# Altium footprint library IDC.PcbLib: 23 footprints (part 1 of 2)
Each footprint in its own frame and in the unit in brackets; x right, y up, seen from the top. Pads: shape width x height; smd on the part's side, far side on the other; paste and mask are expansions set on the pad; w line width, h text height; cw(c..) or ccw(c..) is an arc to the next point about the centre after c.
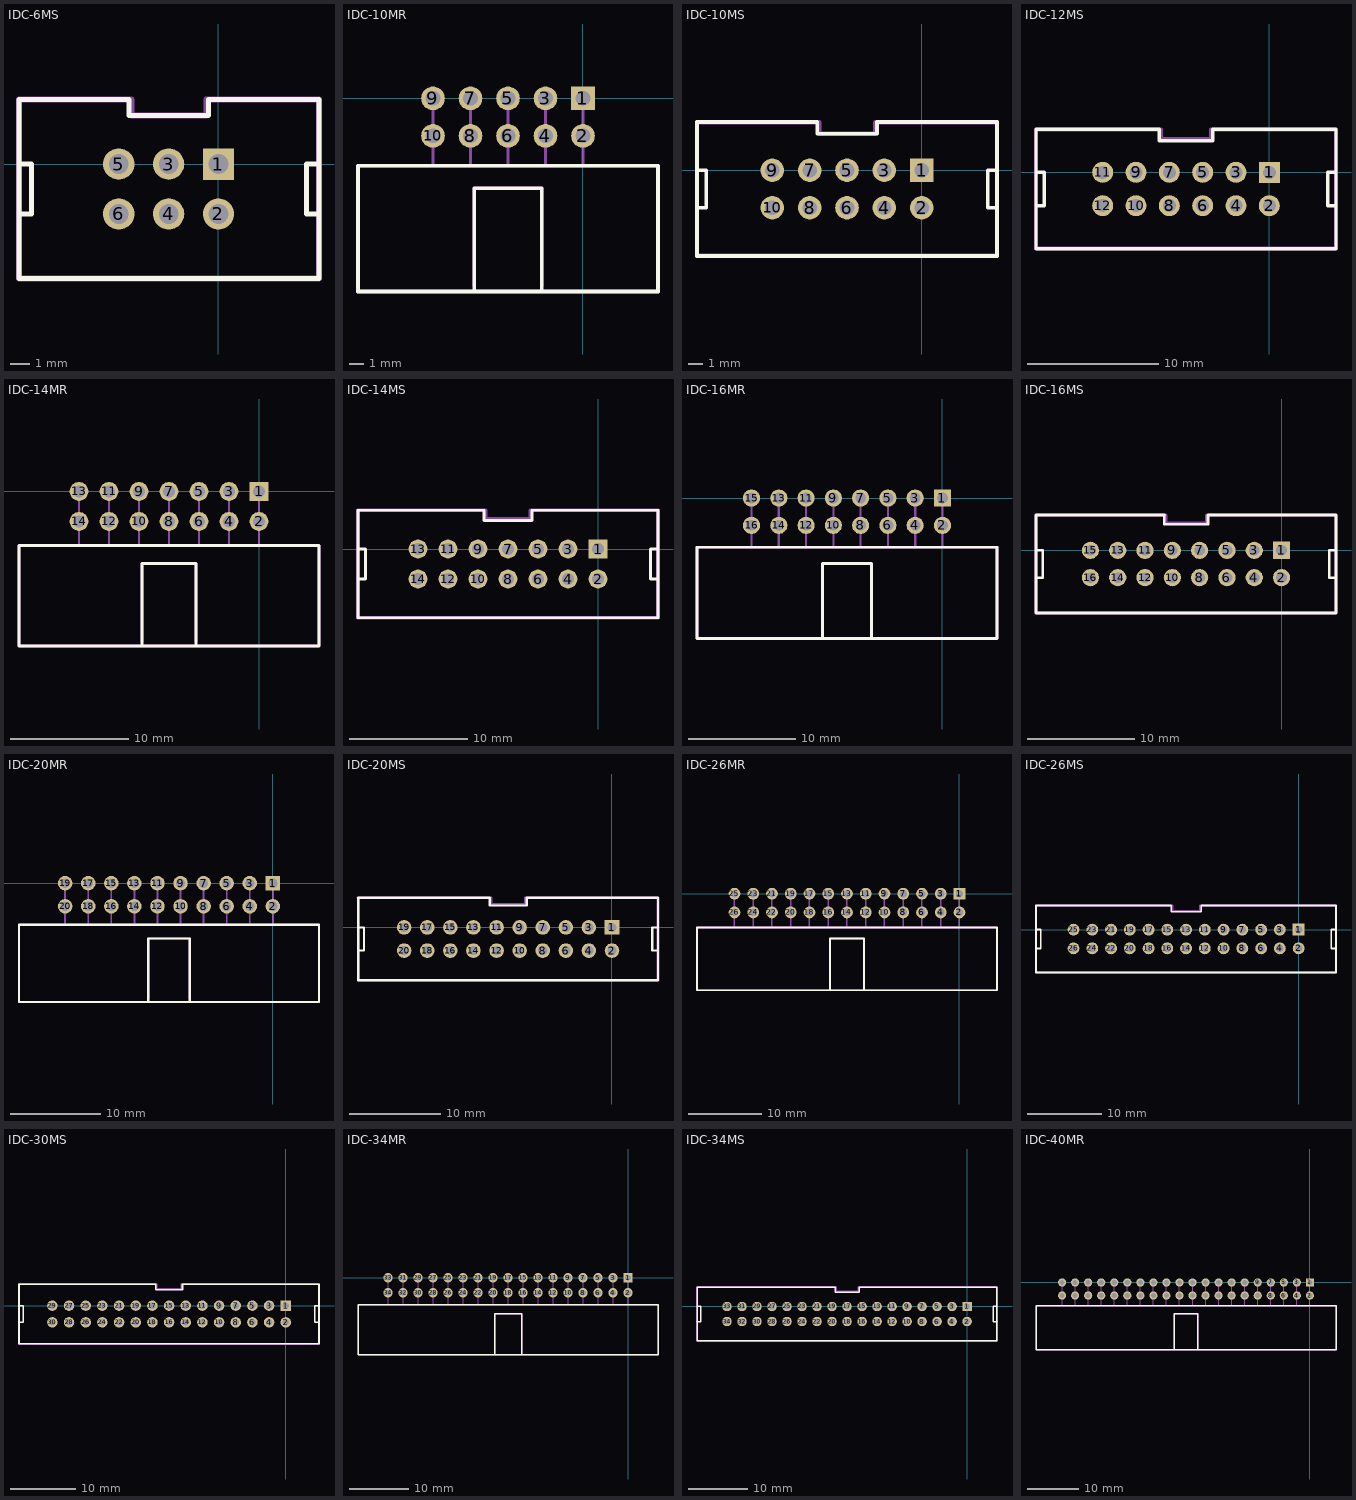
[diagram p0: the footprints below, top view; thin cyan lines are the x and y axes]

## IDC-6MS [mm]
height 9.1
pads (6):
  rect 1.6x1.6 hole 1: 1(0,0)
  round 1.6 hole 1: 2(0,-2.54) 3(-2.54,0) 4(-2.54,-2.54) 5(-5.08,0) 6(-5.08,-2.54)
Top Overlay:
  lines w0.25: -4.562,3.22 -4.562,2.48 -0.498,2.48 -0.498,3.253 ; -4.562,3.28 -10.16,3.28 -10.16,-5.82 5.12,-5.82 5.12,3.28 -0.498,3.28
  lines w0.254: -10.16,-2.54 -9.525,-2.54 -9.525,0 -10.16,0 ; 5.12,-2.54 4.485,-2.54 4.485,0 5.12,0
Mechanical 1:
  lines w0.1: -5.715,-2.54 -4.445,-2.54 ; -5.715,0 -4.445,0 ; -5.08,-3.175 -5.08,-1.905 ; -5.08,-0.635 -5.08,0.635 ; -3.175,-2.54 -1.905,-2.54 ; -3.175,0 -1.905,0 ; -2.54,-3.175 -2.54,-1.905 ; -2.54,-0.635 -2.54,0.635 ; -0.635,-2.54 0.635,-2.54 ; -0.635,0 0.635,0 ; 0,-3.175 0,-1.905 ; 0,-0.635 0,0.635
  lines w0.3: -0.625,3.253 -0.625,2.48 -4.435,2.48 -4.435,3.28 -10.16,3.28 -10.16,-5.82 5.12,-5.82 5.12,3.28 -0.625,3.28
  text "6" at -7.27,-2.95 h1.5
  text "2" at 1.477,-2.897 h1.5
  text "5" at -7.22,-0.42 h1.5
  text "1" at 1.477,-0.357 h1.5
  text ".Designator" at -3.81,-1.27 h1.5
3D body: height 9.1, standoff -3, extent -10.25,-6.02 5.17,3.28

## IDC-10MR [mm]
height 9.2
pads (10):
  rect 1.6x1.6 hole 1: 1(0,0)
  round 1.6 hole 1: 2(0,-2.54) 3(-2.54,0) 4(-2.54,-2.54) 5(-5.08,0) 6(-5.08,-2.54) 7(-7.62,0) 8(-7.62,-2.54) 9(-10.16,0) 10(-10.16,-2.54)
Top Overlay:
  lines w0.254: -7.366,-13.081 -7.366,-6.096 -2.794,-6.096 -2.794,-13.081 ; -15.24,-13.081 -15.24,-4.572 5.08,-4.572 5.08,-13.081 -15.24,-13.081
Mechanical 1:
  lines w0.2: -10.16,-4.572 -10.16,0 ; -7.62,-4.572 -7.62,0 ; -5.08,-4.572 -5.08,0 ; -2.54,-4.572 -2.54,0 ; 0,-4.572 0,0
  lines w0.254: -7.366,-12.7 -7.366,-6.096 -2.794,-6.096 -2.794,-12.7 ; -15.24,-13.081 -15.24,-4.572 5.08,-4.572 5.08,-13.081 -15.24,-13.081
  text "10" at -10.73,-9.247 h1.5
  text "2" at -0.254,-9.144 h1.5
  text "9" at -10.73,-6.707 h1.5
  text "1" at -0.047,-6.707 h1.5
  text ".Designator" at -6.604,-9.525 h1.5
3D body: height 9.3, standoff -2.9, extent -15.28,-13.16 5.08,0.382

## IDC-10MS [mm]
height 9.1
pads (10):
  rect 1.6x1.6 hole 1: 1(0,0)
  round 1.6 hole 1: 2(0,-2.54) 3(-2.54,0) 4(-2.54,-2.54) 5(-5.08,0) 6(-5.08,-2.54) 7(-7.62,0) 8(-7.62,-2.54) 9(-10.16,0) 10(-10.16,-2.54)
Top Overlay:
  lines w0.25: -7.102,3.22 -7.102,2.48 -3.038,2.48 -3.038,3.253 ; -7.102,3.28 -15.28,3.28 -15.28,-5.82 5.12,-5.82 5.12,3.28 -3.038,3.28
  lines w0.254: -15.28,-2.54 -14.645,-2.54 -14.645,0 -15.28,0 ; 5.12,-2.54 4.485,-2.54 4.485,0 5.12,0
Mechanical 1:
  lines w0.1: -10.795,-2.54 -9.525,-2.54 ; -10.795,0 -9.525,0 ; -10.16,-3.175 -10.16,-1.905 ; -10.16,-0.635 -10.16,0.635 ; -8.255,-2.54 -6.985,-2.54 ; -8.255,0 -6.985,0 ; -7.62,-3.175 -7.62,-1.905 ; -7.62,-0.635 -7.62,0.635 ; -5.715,-2.54 -4.445,-2.54 ; -5.715,0 -4.445,0 ; -5.08,-3.175 -5.08,-1.905 ; -5.08,-0.635 -5.08,0.635 ; -3.175,-2.54 -1.905,-2.54 ; -3.175,0 -1.905,0 ; -2.54,-3.175 -2.54,-1.905 ; -2.54,-0.635 -2.54,0.635 ; -0.635,-2.54 0.635,-2.54 ; -0.635,0 0.635,0 ; 0,-3.175 0,-1.905 ; 0,-0.635 0,0.635
  lines w0.3: -3.165,3.253 -3.165,2.48 -6.975,2.48 -6.975,3.28 -15.28,3.28 -15.28,-5.82 5.12,-5.82 5.12,3.28 -3.165,3.28
  text ".Designator" at -7.03,-1.42 h1.5
  text "1" at 1.477,-0.357 h1.5
  text "9" at -12.3,-0.42 h1.5
  text "2" at 1.477,-2.897 h1.5
  text "10" at -12.619,-2.947 h1.5
3D body: height 9.1, standoff -3, extent -15.33,-6.02 5.17,3.28

## IDC-12MS [mm]
height 9.1
pads (12):
  rect 1.6x1.6 hole 1: 1(0,0)
  round 1.6 hole 1: 2(0,-2.54) 3(-2.54,0) 4(-2.54,-2.54) 5(-5.08,0) 6(-5.08,-2.54) 7(-7.62,0) 8(-7.62,-2.54) 9(-10.16,0) 10(-10.16,-2.54) 11(-12.7,0) 12(-12.7,-2.54)
Top Overlay:
  lines w0.25: -17.78,-5.82 5.08,-5.82 5.08,3.28 -4.318,3.28 -4.318,2.413 -8.382,2.413 -8.382,3.28 -17.78,3.28 -17.78,-5.82
  lines w0.254: -17.78,-2.54 -17.145,-2.54 -17.145,0 -17.78,0 ; 5.08,-2.54 4.445,-2.54 4.445,0 5.08,0
Mechanical 1:
  lines w0.1: -13.335,-2.54 -12.065,-2.54 ; -13.335,0 -12.065,0 ; -12.7,-3.175 -12.7,-1.905 ; -12.7,-0.635 -12.7,0.635 ; -10.795,-2.54 -9.525,-2.54 ; -10.795,0 -9.525,0 ; -10.16,-3.175 -10.16,-1.905 ; -10.16,-0.635 -10.16,0.635 ; -8.255,-2.54 -6.985,-2.54 ; -8.255,0 -6.985,0 ; -7.62,-3.175 -7.62,-1.905 ; -7.62,-0.635 -7.62,0.635 ; -5.715,-2.54 -4.445,-2.54 ; -5.715,0 -4.445,0 ; -5.08,-3.175 -5.08,-1.905 ; -5.08,-0.635 -5.08,0.635 ; -3.175,-2.54 -1.905,-2.54 ; -3.175,0 -1.905,0 ; -2.54,-3.175 -2.54,-1.905 ; -2.54,-0.635 -2.54,0.635 ; -0.635,-2.54 0.635,-2.54 ; -0.635,0 0.635,0 ; 0,-3.175 0,-1.905 ; 0,-0.635 0,0.635
  lines w0.3: -17.78,-5.82 5.08,-5.82 5.08,3.28 -4.445,3.28 -4.445,2.54 -8.255,2.54 -8.255,3.28 -17.78,3.28 -17.78,-5.82
  text ".Designator" at -8.509,-1.651 h1.5
  text "1" at 1.477,-0.357 h1.5
  text "11" at -15.429,-0.357 h1.5
  text "2" at 1.477,-2.897 h1.5
  text "12" at -15.429,-2.897 h1.5
3D body: height 9.1, standoff -3, extent -17.87,-6.02 5.17,3.28

## IDC-14MR [mm]
height 9.2
pads (14):
  rect 1.6x1.6 hole 1: 1(0,0)
  round 1.6 hole 1: 2(0,-2.54) 3(-2.54,0) 4(-2.54,-2.54) 5(-5.08,0) 6(-5.08,-2.54) 7(-7.62,0) 8(-7.62,-2.54) 9(-10.16,0) 10(-10.16,-2.54) 11(-12.7,0) 12(-12.7,-2.54) 13(-15.24,0) 14(-15.24,-2.54)
Top Overlay:
  lines w0.254: -9.906,-13.081 -9.906,-6.096 -5.334,-6.096 -5.334,-13.081 ; -20.32,-13.081 -20.32,-4.572 5.08,-4.572 5.08,-13.081 -20.32,-13.081
Mechanical 1:
  lines w0.2: -15.24,-4.572 -15.24,0 ; -12.7,-4.572 -12.7,0 ; -10.16,-4.572 -10.16,0 ; -7.62,-4.572 -7.62,0 ; -5.08,-4.572 -5.08,0 ; -2.54,-4.572 -2.54,0 ; 0,-4.572 0,0
  lines w0.254: -9.906,-12.7 -9.906,-6.096 -5.334,-6.096 -5.334,-12.7 ; -20.32,-13.081 -20.32,-4.572 5.08,-4.572 5.08,-13.081 -20.32,-13.081
  text "14" at -15.81,-9.247 h1.5
  text "2" at -0.254,-9.144 h1.5
  text "13" at -15.81,-6.707 h1.5
  text "1" at -0.047,-6.707 h1.5
  text ".Designator" at -9.144,-9.525 h1.5
3D body: height 9.3, standoff -2.9, extent -20.36,-13.16 5.08,0.382

## IDC-14MS [mm]
height 9.1
pads (14):
  rect 1.6x1.6 hole 1: 1(0,0)
  round 1.6 hole 1: 2(0,-2.54) 3(-2.54,0) 4(-2.54,-2.54) 5(-5.08,0) 6(-5.08,-2.54) 7(-7.62,0) 8(-7.62,-2.54) 9(-10.16,0) 10(-10.16,-2.54) 11(-12.7,0) 12(-12.7,-2.54) 13(-15.24,0) 14(-15.24,-2.54)
Top Overlay:
  lines w0.25: -20.32,-5.82 -20.32,3.28 -9.652,3.28 -9.652,2.413 -5.588,2.413 -5.588,3.28 5.08,3.28 5.08,-5.82 -20.32,-5.82
  lines w0.254: -20.32,-2.54 -19.685,-2.54 -19.685,0 -20.32,0 ; 5.08,-2.54 4.445,-2.54 4.445,0 5.08,0
Mechanical 1:
  lines w0.1: -15.875,-2.54 -14.605,-2.54 ; -15.875,0 -14.605,0 ; -15.24,-3.175 -15.24,-1.905 ; -15.24,-0.635 -15.24,0.635 ; -13.335,-2.54 -12.065,-2.54 ; -13.335,0 -12.065,0 ; -12.7,-3.175 -12.7,-1.905 ; -12.7,-0.635 -12.7,0.635 ; -10.795,-2.54 -9.525,-2.54 ; -10.795,0 -9.525,0 ; -10.16,-3.175 -10.16,-1.905 ; -10.16,-0.635 -10.16,0.635 ; -8.255,-2.54 -6.985,-2.54 ; -8.255,0 -6.985,0 ; -7.62,-3.175 -7.62,-1.905 ; -7.62,-0.635 -7.62,0.635 ; -5.715,-2.54 -4.445,-2.54 ; -5.715,0 -4.445,0 ; -5.08,-3.175 -5.08,-1.905 ; -5.08,-0.635 -5.08,0.635 ; -3.175,-2.54 -1.905,-2.54 ; -3.175,0 -1.905,0 ; -2.54,-3.175 -2.54,-1.905 ; -2.54,-0.635 -2.54,0.635 ; -0.635,-2.54 0.635,-2.54 ; -0.635,0 0.635,0 ; 0,-3.175 0,-1.905 ; 0,-0.635 0,0.635
  lines w0.3: -20.32,-5.82 -20.32,3.28 -9.525,3.28 -9.525,2.54 -5.715,2.54 -5.715,3.28 5.08,3.28 5.08,-5.82 -20.32,-5.82
  text "14" at -17.969,-2.897 h1.5
  text "2" at 1.477,-2.897 h1.5
  text "13" at -17.969,-0.357 h1.5
  text "1" at 1.477,-0.357 h1.5
  text ".Designator" at -10.9,-1.4 h1.5
3D body: height 9.1, standoff -3, extent -20.32,-6.02 5.26,3.28

## IDC-16MR [mm]
height 9.2
pads (16):
  rect 1.6x1.6 hole 1: 1(0,0)
  round 1.6 hole 1: 2(0,-2.54) 3(-2.54,0) 4(-2.54,-2.54) 5(-5.08,0) 6(-5.08,-2.54) 7(-7.62,0) 8(-7.62,-2.54) 9(-10.16,0) 10(-10.16,-2.54) 11(-12.7,0) 12(-12.7,-2.54) 13(-15.24,0) 14(-15.24,-2.54) 15(-17.78,0) 16(-17.78,-2.54)
Top Overlay:
  lines w0.254: -11.176,-13.081 -11.176,-6.096 -6.604,-6.096 -6.604,-13.081 ; -22.86,-13.081 -22.86,-4.572 5.08,-4.572 5.08,-13.081 -22.86,-13.081
Mechanical 1:
  lines w0.2: -17.78,-4.572 -17.78,0 ; -15.24,-4.572 -15.24,0 ; -12.7,-4.572 -12.7,0 ; -10.16,-4.572 -10.16,0 ; -7.62,-4.572 -7.62,0 ; -5.08,-4.572 -5.08,0 ; -2.54,-4.572 -2.54,0 ; 0,-4.572 0,0
  lines w0.254: -11.176,-12.7 -11.176,-6.096 -6.604,-6.096 -6.604,-12.7 ; -22.86,-13.081 -22.86,-4.572 5.08,-4.572 5.08,-13.081 -22.86,-13.081
  text "16" at -18.35,-9.247 h1.5
  text "2" at -0.254,-9.144 h1.5
  text "15" at -18.35,-6.707 h1.5
  text "1" at -0.047,-6.707 h1.5
  text ".Designator" at -10.414,-9.525 h1.5
3D body: height 9.3, standoff -2.9, extent -22.9,-13.16 5.08,0.382

## IDC-16MS [mm]
height 9.1
pads (16):
  rect 1.6x1.6 hole 1: 1(0,0)
  round 1.6 hole 1: 2(0,-2.54) 3(-2.54,0) 4(-2.54,-2.54) 5(-5.08,0) 6(-5.08,-2.54) 7(-7.62,0) 8(-7.62,-2.54) 9(-10.16,0) 10(-10.16,-2.54) 11(-12.7,0) 12(-12.7,-2.54) 13(-15.24,0) 14(-15.24,-2.54) 15(-17.78,0) 16(-17.78,-2.54)
Top Overlay:
  lines w0.25: -10.902,3.28 -10.902,2.413 -6.838,2.413 -6.838,3.28 ; -10.89,3.28 -22.84,3.28 -22.84,-5.82 5.06,-5.82 5.06,3.28 -6.84,3.28
  lines w0.254: -22.84,-2.54 -22.205,-2.54 -22.205,0 -22.84,0 ; 5.06,-2.54 4.425,-2.54 4.425,0 5.06,0
Mechanical 1:
  lines w0.1: -15.875,-2.54 -14.605,-2.54 ; -15.875,0 -14.605,0 ; -15.24,-3.175 -15.24,-1.905 ; -15.24,-0.635 -15.24,0.635 ; -13.335,-2.54 -12.065,-2.54 ; -13.335,0 -12.065,0 ; -12.7,-3.175 -12.7,-1.905 ; -12.7,-0.635 -12.7,0.635 ; -10.795,-2.54 -9.525,-2.54 ; -10.795,0 -9.525,0 ; -10.16,-3.175 -10.16,-1.905 ; -10.16,-0.635 -10.16,0.635 ; -8.255,-2.54 -6.985,-2.54 ; -8.255,0 -6.985,0 ; -7.62,-3.175 -7.62,-1.905 ; -7.62,-0.635 -7.62,0.635 ; -5.715,-2.54 -4.445,-2.54 ; -5.715,0 -4.445,0 ; -5.08,-3.175 -5.08,-1.905 ; -5.08,-0.635 -5.08,0.635 ; -3.175,-2.54 -1.905,-2.54 ; -3.175,0 -1.905,0 ; -2.54,-3.175 -2.54,-1.905 ; -2.54,-0.635 -2.54,0.635 ; -0.635,-2.54 0.635,-2.54 ; -0.635,0 0.635,0 ; 0,-3.175 0,-1.905 ; 0,-0.635 0,0.635
  lines w0.3: -10.79,3.28 -22.84,3.28 -22.84,-5.82 5.06,-5.82 5.06,3.28 -6.965,3.28 -6.965,2.54 -10.775,2.54 -10.775,3.28
  text "16" at -20.509,-2.897 h1.5
  text "2" at 1.477,-2.897 h1.5
  text "15" at -20.509,-0.357 h1.5
  text "1" at 1.477,-0.357 h1.5
  text ".Designator" at -10.9,-1.4 h1.5
3D body: height 9.1, standoff -3, extent -22.84,-5.82 5.28,3.48

## IDC-20MR [mm]
height 9.2
pads (20):
  rect 1.6x1.6 hole 1: 1(0,0)
  round 1.6 hole 1: 2(0,-2.54) 3(-2.54,0) 4(-2.54,-2.54) 5(-5.08,0) 6(-5.08,-2.54) 7(-7.62,0) 8(-7.62,-2.54) 9(-10.16,0) 10(-10.16,-2.54) 11(-12.7,0) 12(-12.7,-2.54) 13(-15.24,0) 14(-15.24,-2.54) 15(-17.78,0) 16(-17.78,-2.54) 17(-20.32,0) 18(-20.32,-2.54) 19(-22.86,0) 20(-22.86,-2.54)
Top Overlay:
  lines w0.254: -13.716,-13.081 -13.716,-6.096 -9.144,-6.096 -9.144,-13.081 ; -27.94,-13.081 -27.94,-4.572 5.08,-4.572 5.08,-13.081 -27.94,-13.081
Mechanical 1:
  lines w0.2: -22.86,-4.572 -22.86,0 ; -20.32,-4.572 -20.32,0 ; -17.78,-4.572 -17.78,0 ; -15.24,-4.572 -15.24,0 ; -12.7,-4.572 -12.7,0 ; -10.16,-4.572 -10.16,0 ; -7.62,-4.572 -7.62,0 ; -5.08,-4.572 -5.08,0 ; -2.54,-4.572 -2.54,0 ; 0,-4.572 0,0
  lines w0.254: -13.716,-12.7 -13.716,-6.096 -9.144,-6.096 -9.144,-12.7 ; -27.94,-13.081 -27.94,-4.572 5.08,-4.572 5.08,-13.081 -27.94,-13.081
  text "20" at -23.43,-9.247 h1.5
  text "2" at -0.254,-9.144 h1.5
  text "19" at -23.43,-6.707 h1.5
  text "1" at -0.047,-6.707 h1.5
  text ".Designator" at -12.954,-9.525 h1.5
3D body: height 9.3, standoff -2.9, extent -27.98,-13.16 5.08,0.382

## IDC-20MS [mm]
height 9.1
pads (20):
  rect 1.6x1.6 hole 1: 1(0,0)
  round 1.6 hole 1: 2(0,-2.54) 3(-2.54,0) 4(-2.54,-2.54) 5(-5.08,0) 6(-5.08,-2.54) 7(-7.62,0) 8(-7.62,-2.54) 9(-10.16,0) 10(-10.16,-2.54) 11(-12.7,0) 12(-12.7,-2.54) 13(-15.24,0) 14(-15.24,-2.54) 15(-17.78,0) 16(-17.78,-2.54) 17(-20.32,0) 18(-20.32,-2.54) 19(-22.86,0) 20(-22.86,-2.54)
Top Overlay:
  lines w0.25: -27.94,3.28 -13.462,3.28 ; -27.92,3.28 -27.92,-5.82 5.06,-5.82 5.06,3.28 -9.378,3.28 -9.378,2.413 -13.442,2.413 -13.442,3.28
  lines w0.254: -27.92,-2.54 -27.285,-2.54 -27.285,0 -27.92,0 ; 5.06,-2.54 4.425,-2.54 4.425,0 5.06,0
Mechanical 1:
  lines w0.1: -15.875,-2.54 -14.605,-2.54 ; -15.875,0 -14.605,0 ; -15.24,-3.175 -15.24,-1.905 ; -15.24,-0.635 -15.24,0.635 ; -13.335,-2.54 -12.065,-2.54 ; -13.335,0 -12.065,0 ; -12.7,-3.175 -12.7,-1.905 ; -12.7,-0.635 -12.7,0.635 ; -10.795,-2.54 -9.525,-2.54 ; -10.795,0 -9.525,0 ; -10.16,-3.175 -10.16,-1.905 ; -10.16,-0.635 -10.16,0.635 ; -8.255,-2.54 -6.985,-2.54 ; -8.255,0 -6.985,0 ; -7.62,-3.175 -7.62,-1.905 ; -7.62,-0.635 -7.62,0.635 ; -5.715,-2.54 -4.445,-2.54 ; -5.715,0 -4.445,0 ; -5.08,-3.175 -5.08,-1.905 ; -5.08,-0.635 -5.08,0.635 ; -3.175,-2.54 -1.905,-2.54 ; -3.175,0 -1.905,0 ; -2.54,-3.175 -2.54,-1.905 ; -2.54,-0.635 -2.54,0.635 ; -0.635,-2.54 0.635,-2.54 ; -0.635,0 0.635,0 ; 0,-3.175 0,-1.905 ; 0,-0.635 0,0.635
  lines w0.3: -27.94,3.28 -13.315,3.28 -13.315,2.54 -9.505,2.54 -9.505,3.28 ; -27.92,3.28 -27.92,-5.82 5.06,-5.82 5.06,3.28 -9.525,3.28
  text ".Designator" at -14.732,-1.397 h1.5
  text "1" at 1.477,-0.357 h1.5
  text "19" at -25.589,-0.357 h1.5
  text "2" at 1.477,-2.897 h1.5
  text "20" at -25.589,-2.897 h1.5
3D body: height 9.1, standoff -3, extent -28.03,-6.02 5.17,3.28

## IDC-26MR [mm]
height 9.2
pads (26):
  rect 1.6x1.6 hole 1: 1(0,0)
  round 1.6 hole 1: 2(0,-2.54) 3(-2.54,0) 4(-2.54,-2.54) 5(-5.08,0) 6(-5.08,-2.54) 7(-7.62,0) 8(-7.62,-2.54) 9(-10.16,0) 10(-10.16,-2.54) 11(-12.7,0) 12(-12.7,-2.54) 13(-15.24,0) 14(-15.24,-2.54) 15(-17.78,0) 16(-17.78,-2.54) 17(-20.32,0) 18(-20.32,-2.54) 19(-22.86,0) 20(-22.86,-2.54) 21(-25.4,0) 22(-25.4,-2.54) 23(-27.94,0) 24(-27.94,-2.54) 25(-30.48,0) 26(-30.48,-2.54)
Top Overlay:
  lines w0.254: -17.526,-13.081 -17.526,-6.096 -12.954,-6.096 -12.954,-13.081 ; -35.56,-13.081 -35.56,-4.572 5.08,-4.572 5.08,-13.081 -35.56,-13.081
Mechanical 1:
  lines w0.2: -30.48,-4.572 -30.48,0 ; -27.94,-4.572 -27.94,0 ; -25.4,-4.572 -25.4,0 ; -22.86,-4.572 -22.86,0 ; -20.32,-4.572 -20.32,0 ; -17.78,-4.572 -17.78,0 ; -15.24,-4.572 -15.24,0 ; -12.7,-4.572 -12.7,0 ; -10.16,-4.572 -10.16,0 ; -7.62,-4.572 -7.62,0 ; -5.08,-4.572 -5.08,0 ; -2.54,-4.572 -2.54,0 ; 0,-4.572 0,0
  lines w0.254: -17.526,-12.7 -17.526,-6.096 -12.954,-6.096 -12.954,-12.7 ; -35.56,-13.081 -35.56,-4.572 5.08,-4.572 5.08,-13.081 -35.56,-13.081
  text "26" at -31.05,-9.247 h1.5
  text "2" at -0.254,-9.144 h1.5
  text "25" at -31.05,-6.707 h1.5
  text "1" at -0.047,-6.707 h1.5
  text ".Designator" at -16.764,-9.525 h1.5
3D body: height 9.3, standoff -2.9, extent -35.6,-13.16 5.08,0.382

## IDC-26MS [mm]
height 9.1
pads (26):
  rect 1.6x1.6 hole 1: 1(0,0)
  round 1.6 hole 1: 2(0,-2.54) 3(-2.54,0) 4(-2.54,-2.54) 5(-5.08,0) 6(-5.08,-2.54) 7(-7.62,0) 8(-7.62,-2.54) 9(-10.16,0) 10(-10.16,-2.54) 11(-12.7,0) 12(-12.7,-2.54) 13(-15.24,0) 14(-15.24,-2.54) 15(-17.78,0) 16(-17.78,-2.54) 17(-20.32,0) 18(-20.32,-2.54) 19(-22.86,0) 20(-22.86,-2.54) 21(-25.4,0) 22(-25.4,-2.54) 23(-27.94,0) 24(-27.94,-2.54) 25(-30.48,0) 26(-30.48,-2.54)
Top Overlay:
  lines w0.25: -35.56,-5.82 -35.56,3.28 -17.252,3.28 -17.252,2.413 -13.188,2.413 -13.188,3.28 5.06,3.28 5.06,-5.82 -35.56,-5.82
  lines w0.254: -35.56,-2.54 -34.925,-2.54 -34.925,0 -35.56,0 ; 5.06,-2.54 4.425,-2.54 4.425,0 5.06,0
Mechanical 1:
  lines w0.1: -15.875,-2.54 -14.605,-2.54 ; -15.875,0 -14.605,0 ; -15.24,-3.175 -15.24,-1.905 ; -15.24,-0.635 -15.24,0.635 ; -13.335,-2.54 -12.065,-2.54 ; -13.335,0 -12.065,0 ; -12.7,-3.175 -12.7,-1.905 ; -12.7,-0.635 -12.7,0.635 ; -10.795,-2.54 -9.525,-2.54 ; -10.795,0 -9.525,0 ; -10.16,-3.175 -10.16,-1.905 ; -10.16,-0.635 -10.16,0.635 ; -8.255,-2.54 -6.985,-2.54 ; -8.255,0 -6.985,0 ; -7.62,-3.175 -7.62,-1.905 ; -7.62,-0.635 -7.62,0.635 ; -5.715,-2.54 -4.445,-2.54 ; -5.715,0 -4.445,0 ; -5.08,-3.175 -5.08,-1.905 ; -5.08,-0.635 -5.08,0.635 ; -3.175,-2.54 -1.905,-2.54 ; -3.175,0 -1.905,0 ; -2.54,-3.175 -2.54,-1.905 ; -2.54,-0.635 -2.54,0.635 ; -0.635,-2.54 0.635,-2.54 ; -0.635,0 0.635,0 ; 0,-3.175 0,-1.905 ; 0,-0.635 0,0.635
  lines w0.3: -35.56,-5.82 -35.56,3.28 -17.125,3.28 -17.125,2.54 -13.315,2.54 -13.315,3.28 5.06,3.28 5.06,-5.82 -35.56,-5.82
  text "26" at -33.209,-2.897 h1.5
  text "2" at 1.477,-2.897 h1.5
  text "25" at -33.209,-0.357 h1.5
  text "1" at 1.477,-0.357 h1.5
  text ".Designator" at -17.907,-1.397 h1.5
3D body: height 9.1, standoff -3, extent -35.65,-6.02 5.17,3.28

## IDC-30MS [mm]
height 9.1
pads (30):
  rect 1.6x1.6 hole 1: 1(0,0)
  round 1.6 hole 1: 2(0,-2.54) 3(-2.54,0) 4(-2.54,-2.54) 5(-5.08,0) 6(-5.08,-2.54) 7(-7.62,0) 8(-7.62,-2.54) 9(-10.16,0) 10(-10.16,-2.54) 11(-12.7,0) 12(-12.7,-2.54) 13(-15.24,0) 14(-15.24,-2.54) 15(-17.78,0) 16(-17.78,-2.54) 17(-20.32,0) 18(-20.32,-2.54) 19(-22.86,0) 20(-22.86,-2.54) 21(-25.4,0) 22(-25.4,-2.54) 23(-27.94,0) 24(-27.94,-2.54) 25(-30.48,0) 26(-30.48,-2.54) 27(-33.02,0) 28(-33.02,-2.54) 29(-35.56,0) 30(-35.56,-2.54)
Top Overlay:
  lines w0.25: -40.64,-5.82 -40.64,3.28 -19.792,3.28 -19.792,2.413 -15.728,2.413 -15.728,3.28 5.06,3.28 5.06,-5.82 -40.64,-5.82
  lines w0.254: -40.64,-2.54 -40.005,-2.54 -40.005,0 -40.64,0 ; 5.06,-2.54 4.425,-2.54 4.425,0 5.06,0
Mechanical 1:
  lines w0.1: -15.875,-2.54 -14.605,-2.54 ; -15.875,0 -14.605,0 ; -15.24,-3.175 -15.24,-1.905 ; -15.24,-0.635 -15.24,0.635 ; -13.335,-2.54 -12.065,-2.54 ; -13.335,0 -12.065,0 ; -12.7,-3.175 -12.7,-1.905 ; -12.7,-0.635 -12.7,0.635 ; -10.795,-2.54 -9.525,-2.54 ; -10.795,0 -9.525,0 ; -10.16,-3.175 -10.16,-1.905 ; -10.16,-0.635 -10.16,0.635 ; -8.255,-2.54 -6.985,-2.54 ; -8.255,0 -6.985,0 ; -7.62,-3.175 -7.62,-1.905 ; -7.62,-0.635 -7.62,0.635 ; -5.715,-2.54 -4.445,-2.54 ; -5.715,0 -4.445,0 ; -5.08,-3.175 -5.08,-1.905 ; -5.08,-0.635 -5.08,0.635 ; -3.175,-2.54 -1.905,-2.54 ; -3.175,0 -1.905,0 ; -2.54,-3.175 -2.54,-1.905 ; -2.54,-0.635 -2.54,0.635 ; -0.635,-2.54 0.635,-2.54 ; -0.635,0 0.635,0 ; 0,-3.175 0,-1.905 ; 0,-0.635 0,0.635
  lines w0.3: -40.64,-5.82 -40.64,3.28 -19.665,3.28 -19.665,2.54 -15.855,2.54 -15.855,3.28 5.06,3.28 5.06,-5.82 -40.64,-5.82
  text "30" at -38.289,-2.897 h1.5
  text "2" at 1.477,-2.897 h1.5
  text "29" at -38.289,-0.357 h1.5
  text "1" at 1.477,-0.357 h1.5
  text ".Designator" at -19.685,-1.524 h1.5
3D body: height 9.1, standoff -3, extent -40.73,-6.02 5.17,3.28

## IDC-34MR [mm]
height 9.2
pads (34):
  rect 1.6x1.6 hole 1: 1(0,0)
  round 1.6 hole 1: 2(0,-2.54) 3(-2.54,0) 4(-2.54,-2.54) 5(-5.08,0) 6(-5.08,-2.54) 7(-7.62,0) 8(-7.62,-2.54) 9(-10.16,0) 10(-10.16,-2.54) 11(-12.7,0) 12(-12.7,-2.54) 13(-15.24,0) 14(-15.24,-2.54) 15(-17.78,0) 16(-17.78,-2.54) 17(-20.32,0) 18(-20.32,-2.54) 19(-22.86,0) 20(-22.86,-2.54) 21(-25.4,0) 22(-25.4,-2.54) 23(-27.94,0) 24(-27.94,-2.54) 25(-30.48,0) 26(-30.48,-2.54) 27(-33.02,0) 28(-33.02,-2.54) 29(-35.56,0) 30(-35.56,-2.54) 31(-38.1,0) 32(-38.1,-2.54) 33(-40.64,0) 34(-40.64,-2.54)
Top Overlay:
  lines w0.254: -22.606,-13.081 -22.606,-6.096 -18.034,-6.096 -18.034,-13.081 ; -45.72,-13.081 5.08,-13.081 5.08,-4.572 -45.72,-4.572 -45.72,-13.081
Mechanical 1:
  lines w0.2: -40.64,-4.572 -40.64,0 ; -38.1,-4.572 -38.1,0 ; -35.56,-4.572 -35.56,0 ; -33.02,-4.572 -33.02,0 ; -30.48,-4.572 -30.48,0 ; -27.94,-4.572 -27.94,0 ; -25.4,-4.572 -25.4,0 ; -22.86,-4.572 -22.86,0 ; -20.32,-4.572 -20.32,0 ; -17.78,-4.572 -17.78,0 ; -15.24,-4.572 -15.24,0 ; -12.7,-4.572 -12.7,0 ; -10.16,-4.572 -10.16,0 ; -7.62,-4.572 -7.62,0 ; -5.08,-4.572 -5.08,0 ; -2.54,-4.572 -2.54,0 ; 0,-4.572 0,0
  lines w0.254: -22.606,-12.7 -22.606,-6.096 -18.034,-6.096 -18.034,-12.7 ; -45.72,-13.081 5.08,-13.081 5.08,-4.572 -45.72,-4.572 -45.72,-13.081
  text ".Designator" at -21.844,-9.525 h1.5
  text "1" at -0.047,-6.707 h1.5
  text "33" at -41.21,-6.707 h1.5
  text "2" at -0.254,-9.144 h1.5
  text "34" at -41.21,-9.247 h1.5
3D body: height 9.3, standoff -2.9, extent -45.76,-13.16 5.08,0.382

## IDC-34MS [mm]
height 9.1
pads (34):
  rect 1.6x1.6 hole 1: 1(0,0)
  round 1.6 hole 1: 2(0,-2.54) 3(-2.54,0) 4(-2.54,-2.54) 5(-5.08,0) 6(-5.08,-2.54) 7(-7.62,0) 8(-7.62,-2.54) 9(-10.16,0) 10(-10.16,-2.54) 11(-12.7,0) 12(-12.7,-2.54) 13(-15.24,0) 14(-15.24,-2.54) 15(-17.78,0) 16(-17.78,-2.54) 17(-20.32,0) 18(-20.32,-2.54) 19(-22.86,0) 20(-22.86,-2.54) 21(-25.4,0) 22(-25.4,-2.54) 23(-27.94,0) 24(-27.94,-2.54) 25(-30.48,0) 26(-30.48,-2.54) 27(-33.02,0) 28(-33.02,-2.54) 29(-35.56,0) 30(-35.56,-2.54) 31(-38.1,0) 32(-38.1,-2.54) 33(-40.64,0) 34(-40.64,-2.54)
Top Overlay:
  lines w0.25: -22.352,3.28 -45.72,3.28 -45.72,-5.82 5.06,-5.82 5.06,3.28 -18.268,3.28 -18.268,2.413 -22.332,2.413 -22.332,3.28
  lines w0.254: -45.72,-2.54 -45.085,-2.54 -45.085,0 -45.72,0 ; 5.06,-2.54 4.425,-2.54 4.425,0 5.06,0
Mechanical 1:
  lines w0.1: -15.875,-2.54 -14.605,-2.54 ; -15.875,0 -14.605,0 ; -15.24,-3.175 -15.24,-1.905 ; -15.24,-0.635 -15.24,0.635 ; -13.335,-2.54 -12.065,-2.54 ; -13.335,0 -12.065,0 ; -12.7,-3.175 -12.7,-1.905 ; -12.7,-0.635 -12.7,0.635 ; -10.795,-2.54 -9.525,-2.54 ; -10.795,0 -9.525,0 ; -10.16,-3.175 -10.16,-1.905 ; -10.16,-0.635 -10.16,0.635 ; -8.255,-2.54 -6.985,-2.54 ; -8.255,0 -6.985,0 ; -7.62,-3.175 -7.62,-1.905 ; -7.62,-0.635 -7.62,0.635 ; -5.715,-2.54 -4.445,-2.54 ; -5.715,0 -4.445,0 ; -5.08,-3.175 -5.08,-1.905 ; -5.08,-0.635 -5.08,0.635 ; -3.175,-2.54 -1.905,-2.54 ; -3.175,0 -1.905,0 ; -2.54,-3.175 -2.54,-1.905 ; -2.54,-0.635 -2.54,0.635 ; -0.635,-2.54 0.635,-2.54 ; -0.635,0 0.635,0 ; 0,-3.175 0,-1.905 ; 0,-0.635 0,0.635
  lines w0.3: -45.72,-5.82 -45.72,3.28 -22.205,3.28 -22.205,2.54 -18.395,2.54 -18.395,3.28 5.06,3.28 5.06,-5.82 -45.72,-5.82
  text "34" at -43.369,-2.897 h1.5
  text "2" at 1.477,-2.897 h1.5
  text "33" at -43.369,-0.357 h1.5
  text "1" at 1.477,-0.357 h1.5
  text ".Designator" at -22.352,-1.524 h1.5
3D body: height 9.1, standoff -3, extent -45.81,-6.02 5.17,3.28

## IDC-40MR [mm]
height 9.2
pads (40):
  rect 1.6x1.6 hole 1: 1(0,0)
  round 1.6 hole 1: 2(0,-2.54) 3(-2.54,0) 4(-2.54,-2.54) 5(-5.08,0) 6(-5.08,-2.54) 7(-7.62,0) 8(-7.62,-2.54) 9(-10.16,0) 10(-10.16,-2.54) 11(-12.7,0) 12(-12.7,-2.54) 13(-15.24,0) 14(-15.24,-2.54) 15(-17.78,0) 16(-17.78,-2.54) 17(-20.32,0) 18(-20.32,-2.54) 19(-22.86,0) 20(-22.86,-2.54) 21(-25.4,0) 22(-25.4,-2.54) 23(-27.94,0) 24(-27.94,-2.54) 25(-30.48,0) 26(-30.48,-2.54) 27(-33.02,0) 28(-33.02,-2.54) 29(-35.56,0) 30(-35.56,-2.54) 31(-38.1,0) 32(-38.1,-2.54) 33(-40.64,0) 34(-40.64,-2.54) 35(-43.18,0) 36(-43.18,-2.54) 37(-45.72,0) 38(-45.72,-2.54) 39(-48.26,0) 40(-48.26,-2.54)
Top Overlay:
  lines w0.254: -26.416,-13.081 -26.416,-6.096 -21.844,-6.096 -21.844,-13.081 ; -53.34,-13.081 5.08,-13.081 5.08,-4.572 -53.34,-4.572 -53.34,-13.081
Mechanical 1:
  lines w0.2: -48.26,-4.572 -48.26,0 ; -45.72,-4.572 -45.72,0 ; -43.18,-4.572 -43.18,0 ; -40.64,-4.572 -40.64,0 ; -38.1,-4.572 -38.1,0 ; -35.56,-4.572 -35.56,0 ; -33.02,-4.572 -33.02,0 ; -30.48,-4.572 -30.48,0 ; -27.94,-4.572 -27.94,0 ; -25.4,-4.572 -25.4,0 ; -22.86,-4.572 -22.86,0 ; -20.32,-4.572 -20.32,0 ; -17.78,-4.572 -17.78,0 ; -15.24,-4.572 -15.24,0 ; -12.7,-4.572 -12.7,0 ; -10.16,-4.572 -10.16,0 ; -7.62,-4.572 -7.62,0 ; -5.08,-4.572 -5.08,0 ; -2.54,-4.572 -2.54,0 ; 0,-4.572 0,0
  lines w0.254: -26.416,-12.7 -26.416,-6.096 -21.844,-6.096 -21.844,-12.7 ; -53.34,-13.081 5.08,-13.081 5.08,-4.572 -53.34,-4.572 -53.34,-13.081
  text ".Designator" at -25.654,-9.525 h1.5
  text "1" at -0.047,-6.707 h1.5
  text "39" at -48.83,-6.707 h1.5
  text "2" at -0.254,-9.144 h1.5
  text "40" at -48.83,-9.247 h1.5
3D body: height 9.3, standoff -2.9, extent -53.38,-13.161 5.08,0.381